# Altium footprint library SKY13418485LF.PcbLib: 1 footprints
Each footprint in its own frame and in the unit in brackets; x right, y up, seen from the top. Pads: shape width x height; smd on the part's side, far side on the other; paste and mask are expansions set on the pad; w line width, h text height; cw(c..) or ccw(c..) is an arc to the next point about the centre after c.
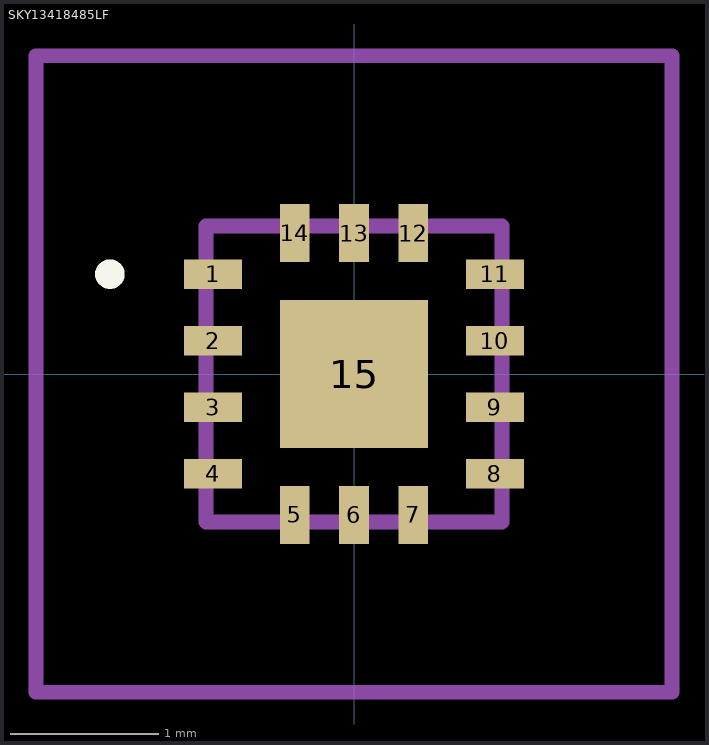
[diagram p0: the footprint, top view; thin cyan lines are the x and y axes]

## SKY13418485LF [mm]
pads (15):
  rect 0.395x0.2 smd: 1(-0.953,0.675) 2(-0.953,0.225) 3(-0.953,-0.225) 4(-0.953,-0.675) 8(0.953,-0.675) 9(0.953,-0.225) 10(0.953,0.225) 11(0.953,0.675)
  rect 0.2x0.395 smd: 5(-0.4,-0.953) 6(0,-0.953) 7(0.4,-0.953) 12(0.4,0.953) 13(0,0.953) 14(-0.4,0.953)
  rect 1x1 smd: 15(0,0)
Top Overlay:
  lines w0.1: -1.7,0.675 cw(c-1.65,0.675) -1.6,0.675 ; -1.7,0.675 -1.7,0.675 ; -1.7,0.675 ccw(c-1.65,0.675) -1.6,0.675 ; -1.6,0.675 -1.6,0.675
Mechanical 15:
  lines w0.1: -1,-1 1,-1 1,1 -1,1 -1,-1
Mechanical 20:
  lines w0.1: -2.15,-2.151 2.15,-2.151 2.15,2.151 -2.15,2.151 -2.15,-2.151